# Altium footprint library PcbLib1.PcbLib: 1 footprints
Each footprint in its own frame and in the unit in brackets; x right, y up, seen from the top. Pads: shape width x height; smd on the part's side, far side on the other; paste and mask are expansions set on the pad; w line width, h text height; cw(c..) or ccw(c..) is an arc to the next point about the centre after c.
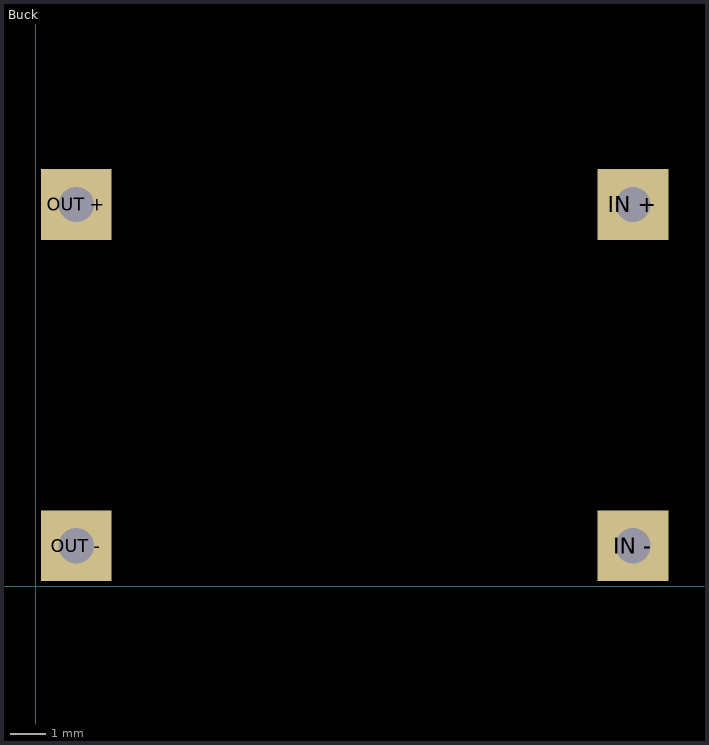
[diagram p0: the footprint, top view; thin cyan lines are the x and y axes]

## Buck [mm]
pads (4):
  rect 2x2 hole 1: "IN +"(16.891,10.795) "IN -"(16.891,1.143) "OUT +"(1.143,10.795) "OUT -"(1.143,1.143)
Multi-Layer:
  lines w0.254: 0,0 18,0 18,12 0,12 0,0
3D body "MIni - 360.step": height 3.76, standoff 0.01, extent 0,0 18,12